# EAGLE library part ?6B-ZR (library mes)
ZH CONNECTOR 1.5 mm, 4 pin 1 row Source: http://www.jst.com .. eZH.pdf
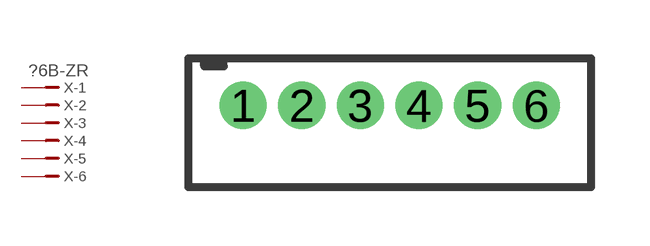
[diagram p3: symbol with the pads of B6B-ZH; footprint B6B-ZH]

Designator prefix X; gates -1=PM-VN -2=PM-N -3=PM-N -4=PM-N -5=PM-N -6=PM-N

## B6B-ZR  [B6B-ZH]
1  -1:1  pas
2  -2:1  pas
3  -3:1  pas
4  -4:1  pas
5  -5:1  pas
6  -6:1  pas

## Footprint B6B-ZH (pad centres in mm)
ZH CONNECTOR Top entry type, 1.5 mm, 4 pin 1 row Source: http://www.jst.com .. eZH.pdf
drill 0.7 pad 1.1 round: 1 -3.75,0; 2 -2.25,0; 3 -0.75,0; 4 0.75,0; 5 2.25,0; 6 3.75,0